# Altium integrated library Xilinx Aerospace and Defense.IntLib: 197 symbols (part 45 of 56)
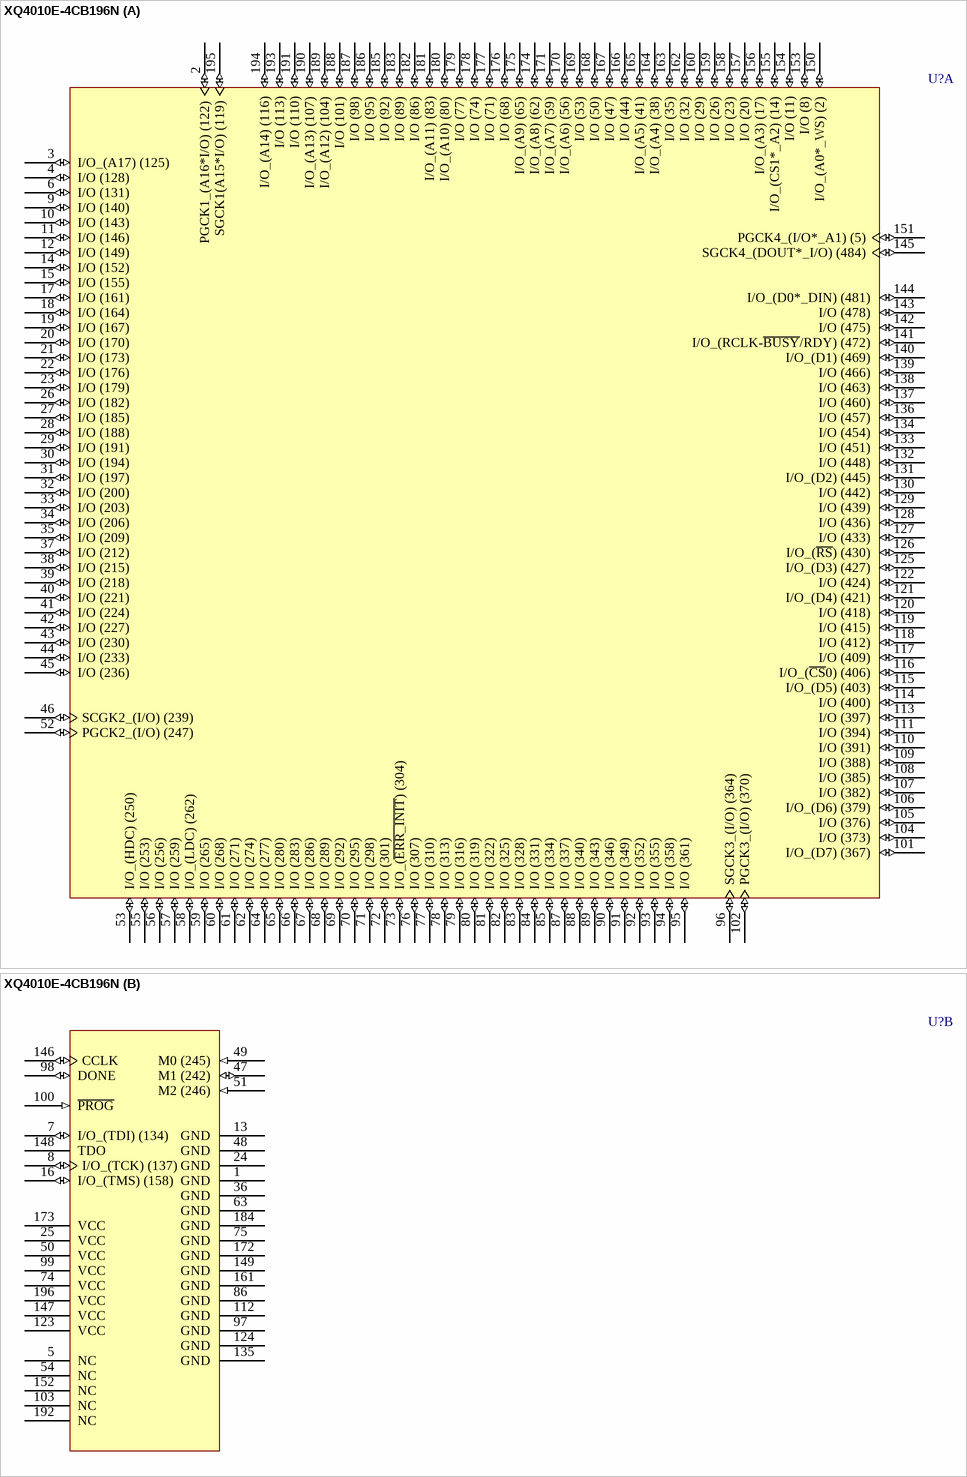
[diagram p451: symbol XQ4010E-4CB196N]

## XQ4010E-4CB196N
designator U?
QPro XQ4010E QML 5V High-Reliability FPGA, 160 I/Os, 196-Pin CQFP, Speed Grade 4, Military Plastic Temperature Grade; Published: 17-Nov-2009; DatasheetVersion: ver2.2, Jun-2000; PackageVersion: ver1.0.1, Apr-2008; PackageReference: CB196; Publisher: Altium Limited; PackageDescription: 196-Pin Ceramic Brazed Quad Flat Pack (CB196); Code_JEDEC: MO-113-AB; ComponentLink1Description: QPRO XQ4000E/EX Datasheet; ComponentLink1URL: http://www.xilinx.com/support/documentation/data_sheets/ds021.pdf; ComponentLink2Description: CB196 Package Drawing; ComponentLink2URL: http://www.xilinx.com/support/documentation/package_specs/cb196.pdf; ComponentLink3Description: Xilinx.com Home; ComponentLink3URL: http://www.xilinx.com
footprint CB196_N (CQFP, 196-Leads, Body 34x34mm; Pitch 0.635mm, Gullwing Leadform, IPC Medium Density)
footprint CB196_L (CQFP, 196-Leads, Body 34x34mm; Pitch 0.635mm, Gullwing Leadform, IPC High Density)
footprint CB196_M (CQFP, 196-Leads, Body 34x34mm; Pitch 0.635mm, Gullwing Leadform, IPC Low Density)
signal-integrity model XQ4010E_CB196 (XC-Series)
part A pins: 2 PGCK1_(A16*I/O) (122) (io), 3 I/O_(A17) (125) (io), 4 I/O (128) (io), 6 I/O (131) (io), 9 I/O (140) (io), 10 I/O (143) (io), 11 I/O (146) (io), 12 I/O (149) (io), 14 I/O (152) (io), 15 I/O (155) (io), 17 I/O (161) (io), 18 I/O (164) (io), 19 I/O (167) (io), 20 I/O (170) (io), 21 I/O (173) (io), 22 I/O (176) (io), 23 I/O (179) (io), 26 I/O (182) (io), 27 I/O (185) (io), 28 I/O (188) (io), 29 I/O (191) (io), 30 I/O (194) (io), 31 I/O (197) (io), 32 I/O (200) (io), 33 I/O (203) (io), 34 I/O (206) (io), 35 I/O (209) (io), 37 I/O (212) (io), 38 I/O (215) (io), 39 I/O (218) (io), 40 I/O (221) (io), 41 I/O (224) (io), 42 I/O (227) (io), 43 I/O (230) (io), 44 I/O (233) (io), 45 I/O (236) (io), 46 SCGK2_(I/O) (239) (io), 52 PGCK2_(I/O) (247) (io), 53 I/O_(HDC) (250) (io), 55 I/O (253) (io), 56 I/O (256) (io), 57 I/O (259) (io), 58 I/O_(LDC) (262) (io), 59 I/O (265) (io), 60 I/O (268) (io), 61 I/O (271) (io), 62 I/O (274) (io), 64 I/O (277) (io), 65 I/O (280) (io), 66 I/O (283) (io), 67 I/O (286) (io), 68 I/O (289) (io), 69 I/O (292) (io), 70 I/O (295) (io), 71 I/O (298) (io), 72 I/O (301) (io), 73 I/O_(~{ERR_INIT}) (304) (io), 76 I/O (307) (io), 77 I/O (310) (io), 78 I/O (313) (io), 79 I/O (316) (io), 80 I/O (319) (io), 81 I/O (322) (io), 82 I/O (325) (io), 83 I/O (328) (io), 84 I/O (331) (io), 85 I/O (334) (io), 87 I/O (337) (io), 88 I/O (340) (io), 89 I/O (343) (io), 90 I/O (346) (io), 91 I/O (349) (io), 92 I/O (352) (io), 93 I/O (355) (io), 94 I/O (358) (io), 95 I/O (361) (io), 96 SGCK3_(I/O) (364) (io), 101 I/O_(D7) (367) (io), 102 PGCK3_(I/O) (370) (io), 104 I/O (373) (io), 105 I/O (376) (io), 106 I/O_(D6) (379) (io), 107 I/O (382) (io), 108 I/O (385) (io), 109 I/O (388) (io), 110 I/O (391) (io), 111 I/O (394) (io), 113 I/O (397) (io), 114 I/O (400) (io), 115 I/O_(D5) (403) (io), 116 I/O_(~{CS}0) (406) (io), 117 I/O (409) (io), 118 I/O (412) (io), 119 I/O (415) (io), 120 I/O (418) (io), 121 I/O_(D4) (421) (io), 122 I/O (424) (io), 125 I/O_(D3) (427) (io), 126 I/O_(~{RS}) (430) (io), 127 I/O (433) (io), 128 I/O (436) (io), 129 I/O (439) (io), 130 I/O (442) (io), 131 I/O_(D2) (445) (io), 132 I/O (448) (io), 133 I/O (451) (io), 134 I/O (454) (io), 136 I/O (457) (io), 137 I/O (460) (io), 138 I/O (463) (io), 139 I/O (466) (io), 140 I/O_(D1) (469) (io), 141 I/O_(RCLK-~{BUSY}/RDY) (472) (io), 142 I/O (475) (io), 143 I/O (478) (io), 144 I/O_(D0*_DIN) (481) (io), 145 SGCK4_(DOUT*_I/O) (484) (io), 150 I/O_(A0*_WS) (2) (io), 151 PGCK4_(I/O*_A1) (5) (io), 153 I/O (8) (io), 154 I/O (11) (io), 155 I/O_(CS1*_A2) (14) (io), 156 I/O_(A3) (17) (io), 157 I/O (20) (io), 158 I/O (23) (io), 159 I/O (26) (io), 160 I/O (29) (io), 162 I/O (32) (io), 163 I/O (35) (io), 164 I/O_(A4) (38) (io), 165 I/O_(A5) (41) (io), 166 I/O (44) (io), 167 I/O (47) (io), 168 I/O (50) (io), 169 I/O (53) (io), 170 I/O_(A6) (56) (io), 171 I/O_(A7) (59) (io), 174 I/O_(A8) (62) (io), 175 I/O_(A9) (65) (io), 176 I/O (68) (io), 177 I/O (71) (io), 178 I/O (74) (io), 179 I/O (77) (io), 180 I/O_(A10) (80) (io), 181 I/O_(A11) (83) (io), 182 I/O (86) (io), 183 I/O (89) (io), 185 I/O (92) (io), 186 I/O (95) (io), 187 I/O (98) (io), 188 I/O (101) (io), 189 I/O_(A12) (104) (io), 190 I/O_(A13) (107) (io), 191 I/O (110) (io), 193 I/O (113) (io), 194 I/O_(A14) (116) (io), 195 SGCK1(A15*I/O) (119) (io)
part B pins: 1 GND (power), 5 NC, 7 I/O_(TDI) (134) (io), 8 I/O_(TCK) (137) (io), 13 GND (power), 16 I/O_(TMS) (158) (io), 24 GND (power), 25 VCC (power), 36 GND (power), 47 M1 (242) (io), 48 GND (power), 49 M0 (245) (in), 50 VCC (power), 51 M2 (246) (in), 54 NC, 63 GND (power), 74 VCC (power), 75 GND (power), 86 GND (power), 97 GND (power), 98 DONE (io), 99 VCC (power), 100 ~{PROG} (in), 103 NC, 112 GND (power), 123 VCC (power), 124 GND (power), 135 GND (power), 146 CCLK (io), 147 VCC (power), 148 TDO (hiz), 149 GND (power), 152 NC, 161 GND (power), 172 GND (power), 173 VCC (power), 184 GND (power), 192 NC, 196 VCC (power)

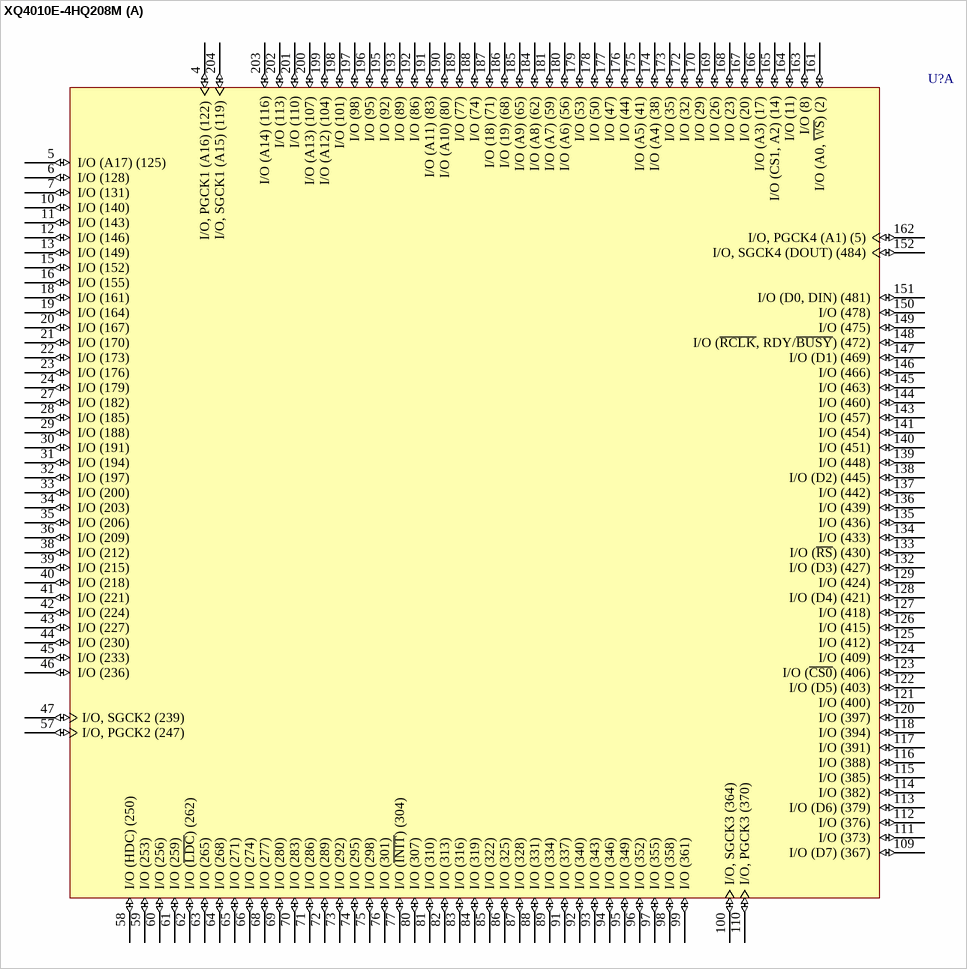
[diagram p165: symbol XQ4010E-4HQ208M]

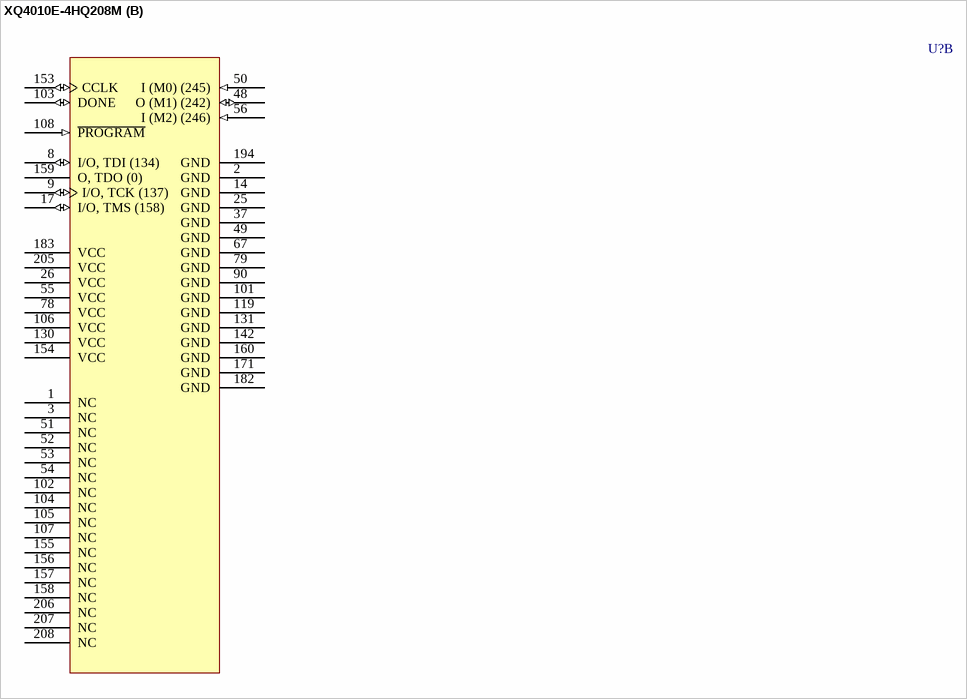
[diagram p166: symbol XQ4010E-4HQ208M]